# EAGLE library part LPC812M101FDH16 (library nxp_60)
32-bit ARM Cortex-M0+ microcontroller The LPC81xM are an ARM Cortex-M0+ based, low-cost 32-bit MCU family operating at CPU frequencies of up to 30 MHz. The LPC81xM support up to 16 kB of flash memory and 4 kB of SRAM. The peripheral complement of the LPC81xM includes a CRC engine, one I 2 C-bus interface, up to three USARTs, up to two SPI interfaces, one multi-rate timer, self wake-up timer, and state-configurable timer, one comparator, function-configurable I/O ports through a switch matrix, an input pattern match engine, and up to 18 general-purpose I/O pins. AAL Eindhoven MK
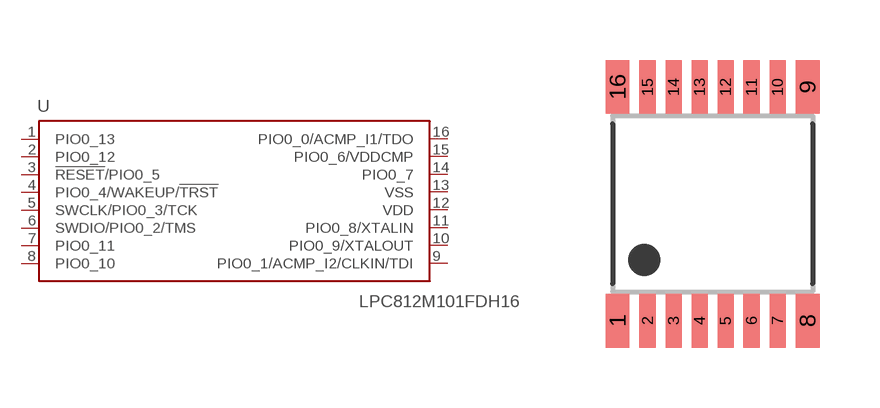
[diagram p129: symbol with the pads of SOT403-1; footprint SOT403-1]

Designator prefix U

## LPC812M101FDH16 (COMP: 1; FLASH: 16k; GPIO: 14; I2C: 1; SPI: 2; SRAM: 4k; USART: 3)  [SOT403-1]
1  PIO0_13
2  PIO0_12
3  !RESET!/PIO0_5
4  PIO0_4/WAKEUP/!TRST!
5  SWCLK/PIO0_3/TCK
6  SWDIO/PIO0_2/TMS
7  PIO0_11
8  PIO0_10
9  PIO0_1/ACMP_I2/CLKIN/TDI
10  PIO0_9/XTALOUT
11  PIO0_8/XTALIN
12  VDD  pwr
13  VSS  pwr
14  PIO0_7
15  PIO0_6/VDDCMP
16  PIO0_0/ACMP_I1/TDO

## Footprint SOT403-1 (pad centres in mm)
SOT403-1 TSSOP16: plastic thin shrink small outline package; 16 leads; body width 4.4 mm JEDEC: MO-153 IEC: ---
smd 0.6 x 1.35: 1 -2.375,-2.925; 8 2.375,-2.925; 9 2.375,2.925; 16 -2.375,2.925
smd 0.4 x 1.35: 2 -1.625,-2.925; 3 -0.975,-2.925; 4 -0.325,-2.925; 5 0.325,-2.925; 6 0.975,-2.925; 7 1.625,-2.925; 10 1.625,2.925; 11 0.975,2.925; 12 0.325,2.925; 13 -0.325,2.925; 14 -0.975,2.925; 15 -1.625,2.925